# Altium schematic symbol library Amplifier_Operational.SchLib: 414 symbols (part 5 of 5)
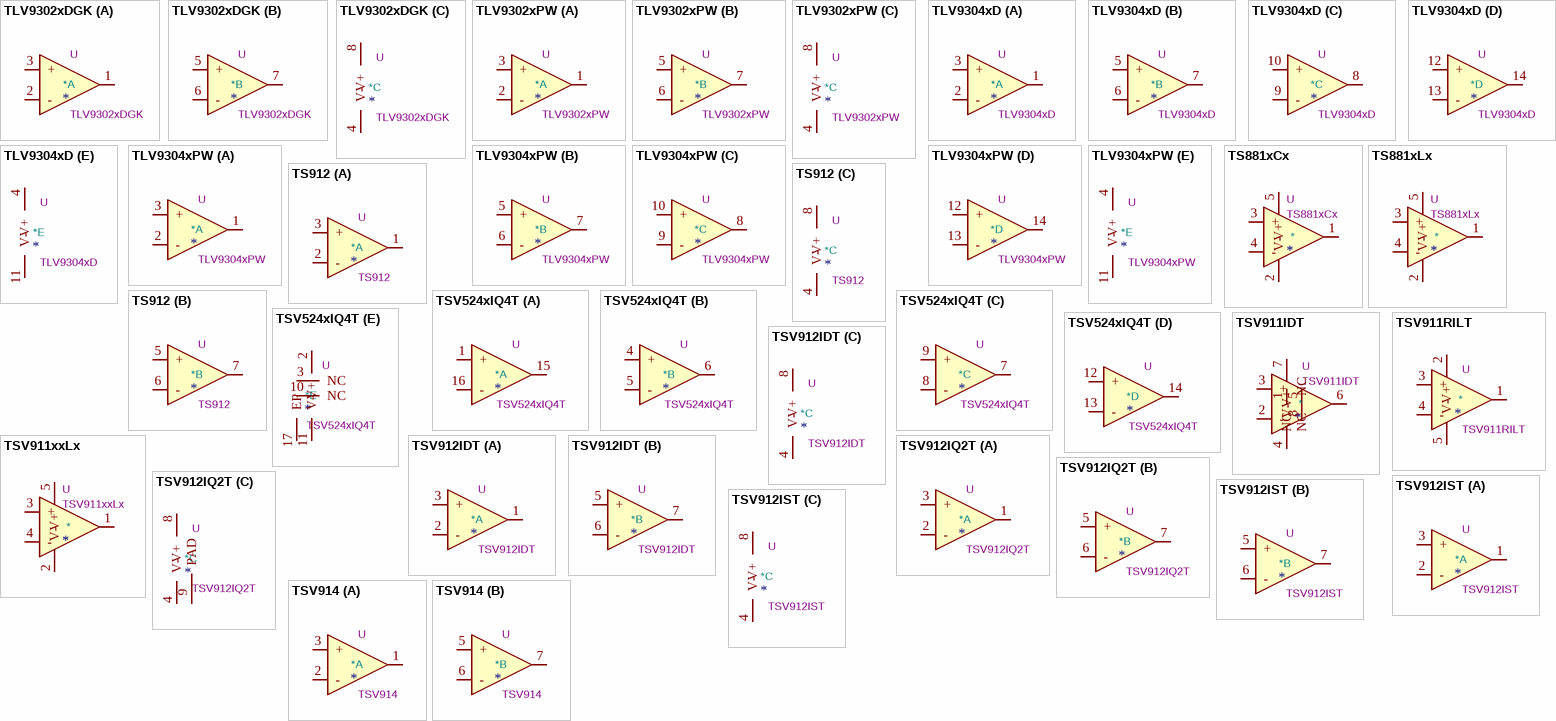
[diagram p27: symbols TLV9302xDGK to TSV914]

## TS912
designator *  value TS912  Reference: U
Dual Rail-to-rail CMOS Operational Amplifier, DIP-8/SOIC-8; ki_keywords: dual opamp; ki_fp_filters: SOIC*3.9x4.9mm*P1.27mm* DIP*W7.62mm* TO*99* OnSemi*Micro8* TSSOP*3x3mm*P0.65mm* TSSOP*4.4x3mm*P0.65mm* MSOP*3x3mm*P0.65mm* SSOP*3.9x4.9mm*P0.635mm* LFCSP*2x2mm*P0.5mm* *SIP* SOIC*5.3x6.2mm*P1.27mm*; Datasheet: www.st.com/resource/en/datasheet/ts912.pdf; Description_: Dual Rail-to-rail CMOS Operational Amplifier, DIP-8/SOIC-8
part A pins: 1, 2 -, 3 +
part B pins: 5 +, 6 -, 7
part C pins: 4 V-, 8 V+

## TSV524xIQ4T
designator *  value TSV524xIQ4T  Reference: U
Quad CMOS Rail-to-Rail Input/Output Amplifier, 1.15MHz GBP, QFN-16; ki_keywords: quad opamp; ki_fp_filters: QFN*1EP*3x3mm*P0.5mm*; Footprint: Package_DFN_QFN:QFN-16-1EP_3x3mm_P0.5mm_EP1.7x1.7mm; Datasheet: https://www.st.com/resource/en/datasheet/tsv521.pdf; Description_: Quad CMOS Rail-to-Rail Input/Output Amplifier, 1.15MHz GBP, QFN-16
part A pins: 1 +, 15, 16 -
part B pins: 4 +, 5 -, 6
part C pins: 7, 8 -, 9 +
part D pins: 12 +, 13 -, 14
part E pins: 2 V+, 3 NC, 10 NC, 11 V-, 17 EP

## TSV911IDT
designator *  value TSV911IDT  Reference: U
Single rail-to-rail input/output 8 MHz operational amplifiers, SOIC-8; ki_keywords: single opamp; ki_fp_filters: SOIC*3.9x4.9mm*P1.27mm*; Footprint: Package_SO:SOIC-8_3.9x4.9mm_P1.27mm; Datasheet: www.st.com/resource/en/datasheet/tsv911.pdf; Description_: Single rail-to-rail input/output 8 MHz operational amplifiers, SOIC-8
pins: 1 NC, 2 -, 3 +, 4 V-, 5 NC, 6, 7 V+, 8 NC

## TSV911RILT
designator *  value TSV911RILT  Reference: U
Single rail-to-rail input/output 8 MHz operational amplifiers, reversed power pins, SOT-23-5; ki_keywords: single opamp; ki_fp_filters: SOT?23*; Footprint: Package_TO_SOT_SMD:SOT-23-5; Datasheet: www.st.com/resource/en/datasheet/tsv911.pdf; Description_: Single rail-to-rail input/output 8 MHz operational amplifiers, reversed power pins, SOT-23-5
pins: 1, 2 V+, 3 +, 4 -, 5 V-

## TSV911xxLx
designator *  value TSV911xxLx  Reference: U
Single rail-to-rail input/output 8 MHz operational amplifiers, SOT-23-5; ki_keywords: single opamp; ki_fp_filters: SOT?23*; Footprint: Package_TO_SOT_SMD:SOT-23-5; Datasheet: www.st.com/resource/en/datasheet/tsv911.pdf; Description_: Single rail-to-rail input/output 8 MHz operational amplifiers, SOT-23-5
pins: 1, 2 V-, 3 +, 4 -, 5 V+

## TSV912IDT
designator *  value TSV912IDT  Reference: U
Dual rail-to-rail input/output 8 MHz operational amplifiers, SOIC-8; ki_keywords: dual opamp; ki_fp_filters: SOIC*3.9x4.9mm*P1.27mm* DIP*W7.62mm* TO*99* OnSemi*Micro8* TSSOP*3x3mm*P0.65mm* TSSOP*4.4x3mm*P0.65mm* MSOP*3x3mm*P0.65mm* SSOP*3.9x4.9mm*P0.635mm* LFCSP*2x2mm*P0.5mm* *SIP* SOIC*5.3x6.2mm*P1.27mm*; Datasheet: www.st.com/resource/en/datasheet/tsv911.pdf; Description_: Dual rail-to-rail input/output 8 MHz operational amplifiers, SOIC-8
part A pins: 1, 2 -, 3 +
part B pins: 5 +, 6 -, 7
part C pins: 4 V-, 8 V+

## TSV912IQ2T
designator *  value TSV912IQ2T  Reference: U
Dual rail-to-rail input/output 8 MHz operational amplifiers, DFN-8; ki_keywords: dual opamp; ki_fp_filters: DFN*2x2mm*P0.5mm*; Footprint: Package_DFN_QFN:DFN-8-1EP_2x2mm_P0.5mm_EP1.05x1.75mm; Datasheet: www.st.com/resource/en/datasheet/tsv911.pdf; Description_: Dual rail-to-rail input/output 8 MHz operational amplifiers, DFN-8
part A pins: 1, 2 -, 3 +
part B pins: 5 +, 6 -, 7
part C pins: 4 V-, 8 V+, 9 PAD

## TSV912IST
designator *  value TSV912IST  Reference: U
Dual rail-to-rail input/output 8 MHz operational amplifiers, MiniSO-8; ki_keywords: dual opamp; ki_fp_filters: SOIC*3.9x4.9mm*P1.27mm* DIP*W7.62mm* TO*99* OnSemi*Micro8* TSSOP*3x3mm*P0.65mm* TSSOP*4.4x3mm*P0.65mm* MSOP*3x3mm*P0.65mm* SSOP*3.9x4.9mm*P0.635mm* LFCSP*2x2mm*P0.5mm* *SIP* SOIC*5.3x6.2mm*P1.27mm*; Datasheet: www.st.com/resource/en/datasheet/tsv911.pdf; Description_: Dual rail-to-rail input/output 8 MHz operational amplifiers, MiniSO-8
part A pins: 1, 2 -, 3 +
part B pins: 5 +, 6 -, 7
part C pins: 4 V-, 8 V+

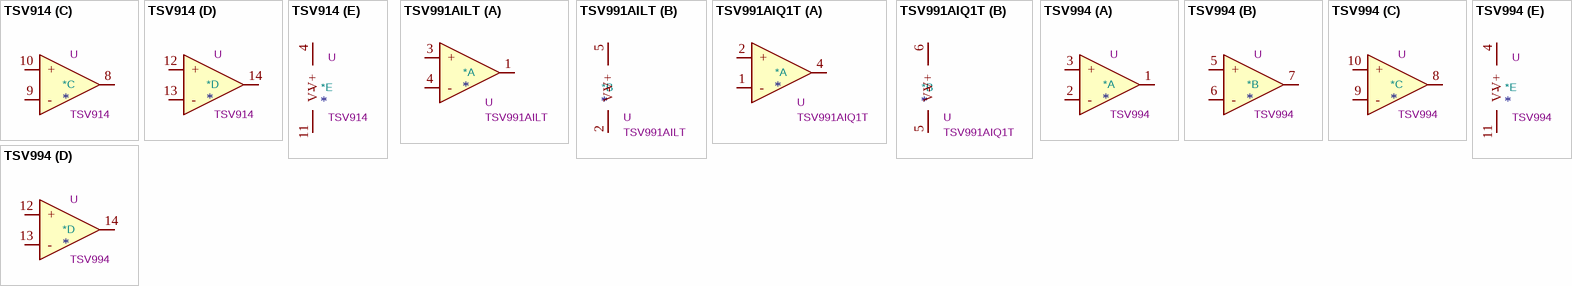
[diagram p23: symbols TSV914 to TSV994]

## TSV914
designator *  value TSV914  Reference: U
Quad rail-to-rail input/output 8 MHz operational amplifiers, SOIC-14/TSSOP-14; ki_keywords: quad opamp; ki_fp_filters: SOIC*3.9x8.7mm*P1.27mm* DIP*W7.62mm* TSSOP*4.4x5mm*P0.65mm* SSOP*5.3x6.2mm*P0.65mm* MSOP*3x3mm*P0.5mm*; Datasheet: www.st.com/resource/en/datasheet/tsv911.pdf; Description_: Quad rail-to-rail input/output 8 MHz operational amplifiers, SOIC-14/TSSOP-14
part A pins: 1, 2 -, 3 +
part B pins: 5 +, 6 -, 7
part C pins: 8, 9 -, 10 +
part D pins: 12 +, 13 -, 14
part E pins: 4 V+, 11 V-

## TSV991AILT
designator *  value TSV991AILT  Reference: U
20MHz GBW, RRIO, 2.5..5.5V supply, 820uA single OpAmp, SOT-23-5; ki_keywords: low-power micropower st; ki_fp_filters: SOT?23*; Footprint: Package_TO_SOT_SMD:SOT-23-5; Datasheet: www.st.com/resource/en/datasheet/tsv991.pdf; Description_: 20MHz GBW, RRIO, 2.5..5.5V supply, 820uA single OpAmp, SOT-23-5
part A pins: 1, 3 +, 4 -
part B pins: 2 V-, 5 V+

## TSV991AIQ1T
designator *  value TSV991AIQ1T  Reference: U
20MHz GBW, RRIO, 2.5..5.5V supply, 820uA single OpAmp, DFN-6; ki_keywords: low-power micropower st; ki_fp_filters: *DFN*1.6x1.3mm*P0.4mm*; Footprint: Package_DFN_QFN:DFN-6_1.6x1.3mm_P0.4mm; Datasheet: www.st.com/resource/en/datasheet/tsv991.pdf; Description_: 20MHz GBW, RRIO, 2.5..5.5V supply, 820uA single OpAmp, DFN-6
part A pins: 1 -, 2 +, 4
part B pins: 5 V-, 6 V+

## TSV994
designator *  value TSV994  Reference: U
Quad Rail-to-rail, 20 MHz GBP, operational amplifiers, SOIC-14/TSSOP-14; ki_keywords: quad opamp; ki_fp_filters: SOIC*3.9x8.7mm*P1.27mm* DIP*W7.62mm* TSSOP*4.4x5mm*P0.65mm* SSOP*5.3x6.2mm*P0.65mm* MSOP*3x3mm*P0.5mm*; Datasheet: https://www.st.com/resource/en/datasheet/tsv994.pdf; Description_: Quad Rail-to-rail, 20 MHz GBP, operational amplifiers, SOIC-14/TSSOP-14
part A pins: 1, 2 -, 3 +
part B pins: 5 +, 6 -, 7
part C pins: 8, 9 -, 10 +
part D pins: 12 +, 13 -, 14
part E pins: 4 V+, 11 V-